# EAGLE library part RFID-RC522 (library MDB_HOME)
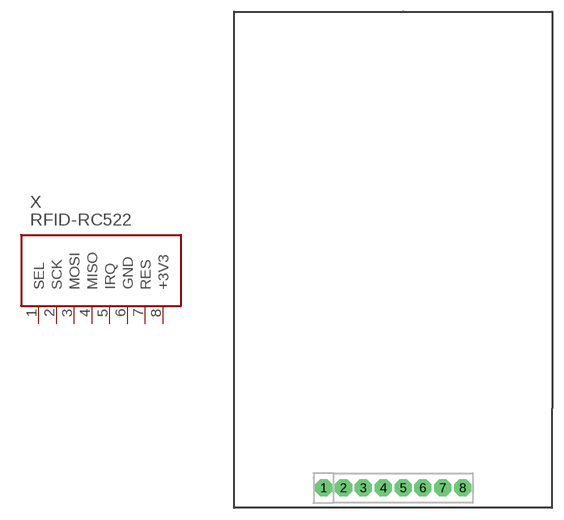
[diagram p51: symbol with the pads of RFID-RC522; footprint RFID-RC522]

Designator prefix X

## RFID-RC522  [RFID-RC522]
1  SEL
2  SCK
3  MOSI
4  MISO
5  IRQ
6  GND
7  RES
8  +3V3

## Footprint RFID-RC522 (pad centres in mm)
drill 1 pad 2.184 octagon: 1 -8.89,0; 2 -6.35,0; 3 -3.81,0; 4 -1.27,0; 5 1.27,0; 6 3.81,0; 7 6.35,0; 8 8.89,0